# Altium footprint library BGA153C50P14X14_1150X1300X80.PcbLib: 1 footprints
Each footprint in its own frame and in the unit in brackets; x right, y up, seen from the top. Pads: shape width x height; smd on the part's side, far side on the other; paste and mask are expansions set on the pad; w line width, h text height; cw(c..) or ccw(c..) is an arc to the next point about the centre after c.
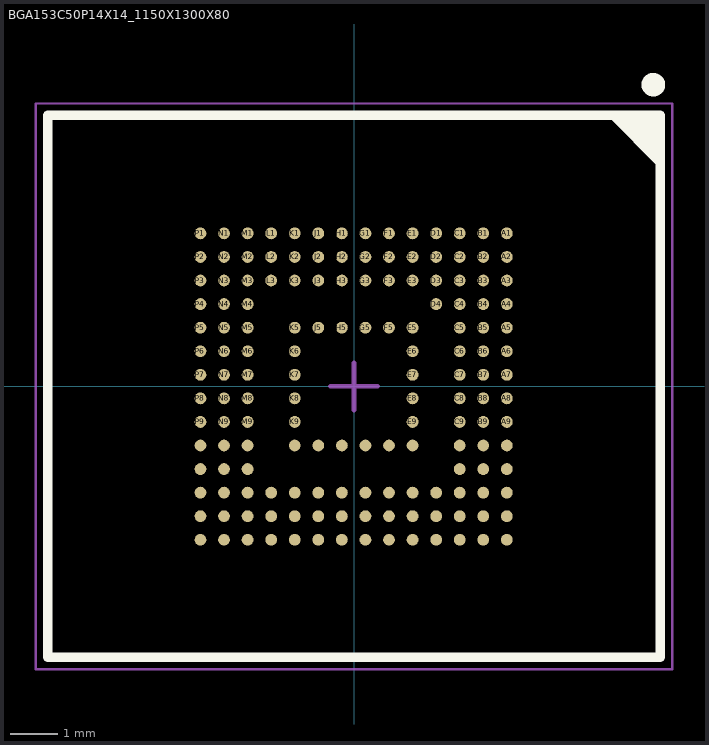
[diagram p0: the footprint, top view; thin cyan lines are the x and y axes]

## BGA153C50P14X14_1150X1300X80 [mm] "BGA, 153-Leads, Body 11.50x13.00mmx0.80mm, Pitch 0.50mm"
height 0.8
pads (153):
  round 0.25 smd mask+0.05: A1(3.243,3.246) A2(3.243,2.746) A3(3.243,2.246) A4(3.243,1.746) A5(3.243,1.246) A6(3.243,0.746) A7(3.243,0.246) A8(3.243,-0.254) A9(3.243,-0.754) A10(3.243,-1.254) A11(3.243,-1.754) A12(3.243,-2.254) A13(3.243,-2.754) A14(3.243,-3.254) B1(2.743,3.246) B2(2.743,2.746) B3(2.743,2.246) B4(2.743,1.746) B5(2.743,1.246) B6(2.743,0.746) B7(2.743,0.246) B8(2.743,-0.254) B9(2.743,-0.754) B10(2.743,-1.254) B11(2.743,-1.754) B12(2.743,-2.254) B13(2.743,-2.754) B14(2.743,-3.254) C1(2.243,3.246) C2(2.243,2.746) C3(2.243,2.246) C4(2.243,1.746) C5(2.243,1.246) C6(2.243,0.746) C7(2.243,0.246) C8(2.243,-0.254) C9(2.243,-0.754) C10(2.243,-1.254) C11(2.243,-1.754) C12(2.243,-2.254) C13(2.243,-2.754) C14(2.243,-3.254) D1(1.743,3.246) D2(1.743,2.746) D3(1.743,2.246) D4(1.743,1.746) D12(1.743,-2.254) D13(1.743,-2.754) D14(1.743,-3.254) E1(1.243,3.246) E2(1.243,2.746) E3(1.243,2.246) E5(1.243,1.246) E6(1.243,0.746) E7(1.243,0.246) E8(1.243,-0.254) E9(1.243,-0.754) E10(1.243,-1.254) E12(1.243,-2.254) E13(1.243,-2.754) E14(1.243,-3.254) F1(0.743,3.246) F2(0.743,2.746) F3(0.743,2.246) F5(0.743,1.246) F10(0.743,-1.254) F12(0.743,-2.254) F13(0.743,-2.754) F14(0.743,-3.254) G1(0.243,3.246) G2(0.243,2.746) G3(0.243,2.246) G5(0.243,1.246) G10(0.243,-1.254) G12(0.243,-2.254) G13(0.243,-2.754) G14(0.243,-3.254) H1(-0.257,3.246) H2(-0.257,2.746) H3(-0.257,2.246) H5(-0.257,1.246) H10(-0.257,-1.254) H12(-0.257,-2.254) H13(-0.257,-2.754) H14(-0.257,-3.254) J1(-0.757,3.246) J2(-0.757,2.746) J3(-0.757,2.246) J5(-0.757,1.246) J10(-0.757,-1.254) J12(-0.757,-2.254) J13(-0.757,-2.754) J14(-0.757,-3.254) K1(-1.257,3.246) K2(-1.257,2.746) K3(-1.257,2.246) K5(-1.257,1.246) K6(-1.257,0.746) K7(-1.257,0.246) K8(-1.257,-0.254) K9(-1.257,-0.754) K10(-1.257,-1.254) K12(-1.257,-2.254) K13(-1.257,-2.754) K14(-1.257,-3.254) L1(-1.757,3.246) L2(-1.757,2.746) L3(-1.757,2.246) L12(-1.757,-2.254) L13(-1.757,-2.754) L14(-1.757,-3.254) M1(-2.257,3.246) M2(-2.257,2.746) M3(-2.257,2.246) M4(-2.257,1.746) M5(-2.257,1.246) M6(-2.257,0.746) M7(-2.257,0.246) M8(-2.257,-0.254) M9(-2.257,-0.754) M10(-2.257,-1.254) M11(-2.257,-1.754) M12(-2.257,-2.254) M13(-2.257,-2.754) M14(-2.257,-3.254) N1(-2.757,3.246) N2(-2.757,2.746) N3(-2.757,2.246) N4(-2.757,1.746) N5(-2.757,1.246) N6(-2.757,0.746) N7(-2.757,0.246) N8(-2.757,-0.254) N9(-2.757,-0.754) N10(-2.757,-1.254) N11(-2.757,-1.754) N12(-2.757,-2.254) N13(-2.757,-2.754) N14(-2.757,-3.254) P1(-3.257,3.246) P2(-3.257,2.746) P3(-3.257,2.246) P4(-3.257,1.746) P5(-3.257,1.246) P6(-3.257,0.746) P7(-3.257,0.246) P8(-3.257,-0.254) P9(-3.257,-0.754) P10(-3.257,-1.254) P11(-3.257,-1.754) P12(-3.257,-2.254) P13(-3.257,-2.754) P14(-3.257,-3.254)
Top Overlay:
  circle w0.25: c6.35,6.4 r0.125
  region: 6.5,4.75 5.5,5.75 6.5,5.75
  lines w0.2: 5.5,5.75 6.5,4.75 ; -6.5,-5.75 6.5,-5.75 6.5,5.75 -6.5,5.75 -6.5,-5.75
Top Assembly:
  lines w0.1: -6.5,-5.75 6.5,-5.75 6.5,5.75 -6.5,5.75 -6.5,-5.75
Top Courtyard:
  lines w0.05: -6.75,-6 6.75,-6 6.75,6 -6.75,6 -6.75,-6
  lines w0.1: -0.5,0 0.5,0 ; 0,-0.5 0,0.5
3D body "BGA153C50P14X14_1150X1300X80.step": height 0.8, standoff 0, extent -6.5,-5.75 6.5,5.75